# Altium integrated library STMicroelectronics_MEMS_Sensors.IntLib: 5 symbols
Pins are listed as number, name and electrical type; pins without a type are passive.

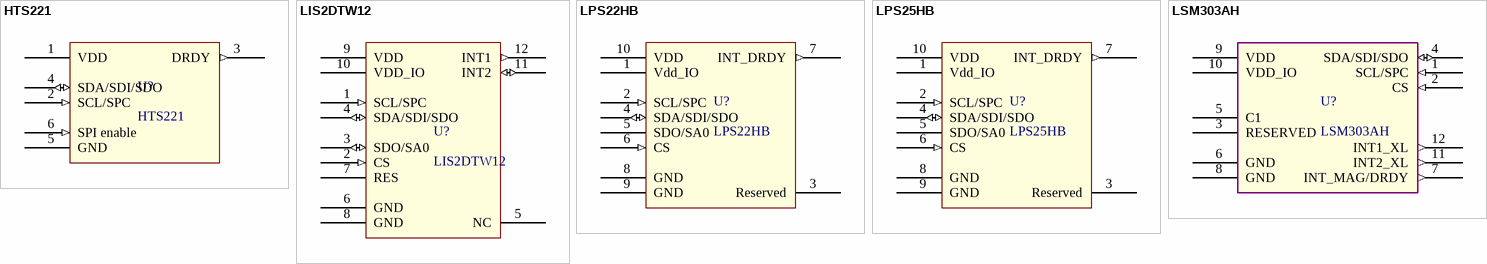
[diagram p0: symbols HTS221 to LSM303AH]

## HTS221
designator U?
Capacitive digital sensor for relative humidity and temperature; ComponentLink1Description: Datasheet; ComponentLink1URL: https://www.st.com/resource/en/datasheet/hts221.pdf
footprint STM_HLGA-6L
pins: 1 VDD (power) "Power supply", 2 SCL/SPC (in) "I²C serial clock (SCL)/SPI serial port clock (SPC)", 3 DRDY (out) "Data Ready output signal", 4 SDA/SDI/SDO (io) "I²C serial data (SDA)/3-wire SPI serial data input /output (SDI/SDO)", 5 GND (power) "Ground", 6 SPI enable (in) "I²C/SPI mode selection"

## LIS2DTW12
designator U?
MEMS digital output dual motion and temperature sensor; ComponentLink1Description: Datasheet; ComponentLink1URL: https://www.st.com/resource/en/datasheet/lis2dtw12.pdf; Created by: Manuel Caballero
footprint PQFN50PX200X200X70-12 (IPC-7351C; Length 2mm; Width 2mm; Height 0.7mm; Pitch 0.5mm; PAD 0.25x0.275mm; 12 pins)
pins: 1 SCL/SPC (in) "I²C serial clock (SCL)/ SPI serial port clock (SPC)", 2 CS (in) "SPI enable/ I²C/SPI mode selection  (1: SPI idle mode / I²C communication enabled;  0: SPI communication mode / I²C disabled)", 3 SDO/SA0 (io) "SPI serial data output (SDO)/ I²C less significant bit of the device address (SA0)", 4 SDA/SDI/SDO (io) "I²C serial data (SDA)/SPI serial data input (SDI)/3-wire interface serial data output (SDO)", 5 NC "Internally not connected. Can be tied to VDD, VDDIO, or GND.", 6 GND (power) "0 V supply", 7 RES (power) "Connect to GND", 8 GND (power) "0 V supply", 9 VDD (power) "Power supply", 10 VDD_IO (power) "Power supply for I/O pins", 11 INT2 (io) "Interrupt pin 2. Clock input when selected in single data conversion on demand", 12 INT1 (out) "Interrupt pin 1"

## LPS22HB
designator U?
MEMS nano pressure sensor: 260-1260 hPa absolute digital output barometer; ComponentLink1Description: Datasheet; ComponentLink1URL: https://www.st.com/resource/en/datasheet/dm00140895.pdf
footprint STM_HLGA-10L
pins: 1 Vdd_IO (power) "Power supply for I/O pins", 2 SCL/SPC (in) "I2C serial clock (SCL)/SPI serial port clock (SPC)", 3 Reserved (power) "Connect to GND", 4 SDA/SDI/SDO (io) "I2C serial data (SDA)/4-wire SPI serial data input (SDI)/3-wire serial data input/output (SDI/SDO)", 5 SDO/SA0 "4-wire SPI serial data output (SDO)/I 2 C less significant bit of the device address (SA0)", 6 CS (in) "SPI enable/I2C/SPI mode selection", 7 INT_DRDY (out) "Interrupt or Data Ready", 8 GND (power) "0V supply", 9 GND (power) "0V supply", 10 VDD (power) "Power supply"

## LPS25HB
designator U?
MEMS pressure sensor: 260-1260 hPa absolute digital output barometer; ComponentLink1Description: Datasheet; ComponentLink1URL: https://www.st.com/resource/en/datasheet/lps25hb.pdf
footprint STM_HLGA-10L
pins: 1 Vdd_IO (power) "Power supply for I/O pins", 2 SCL/SPC (in) "I2C serial clock (SCL)/SPI serial port clock (SPC)", 3 Reserved (power) "Connect to GND", 4 SDA/SDI/SDO (io) "I2C serial data (SDA)/4-wire SPI serial data input (SDI)/3-wire serial data input/output (SDI/SDO)", 5 SDO/SA0 "4-wire SPI serial data output (SDO)/I 2 C less significant bit of the device address (SA0)", 6 CS (in) "SPI enable/I2C/SPI mode selection", 7 INT_DRDY (out) "Interrupt or Data Ready", 8 GND (power) "0V supply", 9 GND (power) "0V supply", 10 VDD (power) "Power supply"

## LSM303AH
designator U?
Ultra-compact high-performance eCompass module:  ultra-low-power 3D accelerometer and 3D magnetometer; ComponentLink1Description: Datasheet; ComponentLink1URL: http://www.st.com/content/ccc/resource/technical/document/datasheet/1b/a1/fd/09/9f/41/44/cf/DM00177690.pdf/files/DM00177690.pdf/jcr:content/translations/en.DM00177690.pdf; Supplier 1: Mouser; Supplier Part Number 1: 511-LSM303AHTR
footprint PQFN50PX200X200X100-12 (IPC-7351C; Length 2mm; Width 2mm; Height 1mm; Pitch 0.5mm; PAD 0.25x0.275mm; 12 pins)
pins: 1 SCL/SPC (in) "I2C serial clock (SCL)  SPI serial port clock (SPC)", 2 CS (in) "SPI enable  I2C/SPI mode selection  1: SPI idle mode / I2C communication enabled;  0: SPI communication mode / I2C disabled", 3 RESERVED "Reserved, connected to GND", 4 SDA/SDI/SDO (io) "I2C serial data (SDA)  SPI serial data input (SDI)  3-wire interface serial data output (SDO)", 5 C1 "Capacitor connection (C1 = 220 nF)", 6 GND (power) "0 V", 7 INT_MAG/DRDY (out) "Magnetometer interrupt/data-ready signal", 8 GND (power) "0 V", 9 VDD (power) "Power supply", 10 VDD_IO (power) "Power supply for I/O pins", 11 INT2_XL (out) "Accelerometer interrupt 2", 12 INT1_XL (out) "Accelerometer interrupt 1"